# Altium integrated library HCTI-10-20.0.IntLib: 1 symbol
Pins are listed as number, name and electrical type; pins without a type are passive.

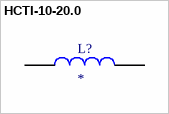
[diagram p0: symbol HCTI-10-20.0]

## HCTI-10-20.0
designator L?
High Current Toroidal Inductor | 10 uH; MF: Signal Transformer; MP: HCTI-10-20.0; SnapEDA_Link: https://www.snapeda.com/parts/HCTI-10-20.0/Signal+Transformer/view-part/?ref=snap; Package: Radial Bel Fuse; Value: *; Check_prices: https://www.snapeda.com/parts/HCTI-10-20.0/Signal+Transformer/view-part/?ref=eda
footprint IND_HCTI-10-20.0
pins: 1, 2